# Altium integrated library BNO055.IntLib: 1 symbol
Pins are listed as number, name and electrical type; pins without a type are passive.

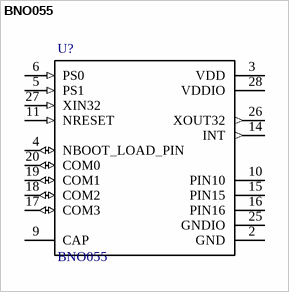
[diagram p0: symbol BNO055]

## BNO055
designator U?
/ Accelerometer, Gyroscope, Magnetometer, 9 Axis Sensor IÂ²C, UART Output /; MF: Bosch; Digi-Key_Part_Number: 828-1058-1-ND; SnapEDA_Link: https://www.snapeda.com/parts/BNO055/Bosch%20Sensortec/view-part/51961/?ref=snap; Package: LGA-28 Bosch; Digi-Key_Purchase_URL: https://www.digikey.com/product-detail/en/bosch-sensortec/BNO055/828-1058-1-ND/6136309?utm_source=snapeda&utm_medium=aggregator&utm_campaign=symbol; MP: BNO055; Value: *
footprint *LGA28R50P4X10_380X520X100
pins: 2 GND (power), 3 VDD (power), 4 NBOOT_LOAD_PIN (io), 5 PS1 (in), 6 PS0 (in), 9 CAP, 10 PIN10 (power), 11 NRESET (in), 14 INT (out), 15 PIN15 (power), 16 PIN16 (power), 17 COM3 (io), 18 COM2 (io), 19 COM1 (io), 20 COM0 (io), 25 GNDIO (power), 26 XOUT32 (out), 27 XIN32 (in), 28 VDDIO (power)